# Altium schematic symbol library IND,4.7uH,25A,Wirewound,SMD.Schlib: 1 symbol
Pins are listed as number, name and electrical type; pins without a type are passive.

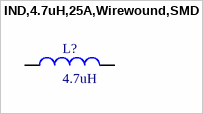
[diagram p0: symbol IND,4.7uH,25A,Wirewound,SMD]

## IND,4.7uH,25A,Wirewound,SMD
designator L?, comment 4.7uH
4.7 µH Shielded Drum Core, Wirewound Inductor 25 A 5.5mOhm Max Nonstandard
pins: 1, 2